# EAGLE library part K155ID1 (library TimeExpander)
Soviet version of SN74141 BCD to Decimal Decoder / Nixie Driver
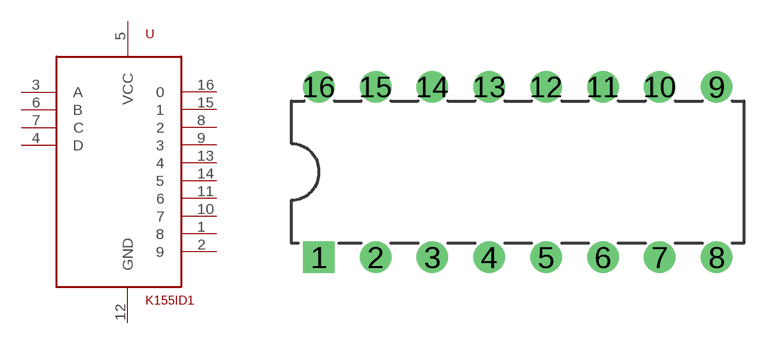
[diagram p4: symbol with the pads of DIP16-2.54-19.2X7.62MM; footprint DIP16-2.54-19.2X7.62MM]

Designator prefix -

## K155ID1 (VALUE: K155ID1)  [DIP16-2.54-19.2X7.62MM]
1  8
2  9
3  A
4  D
5  VCC
6  B
7  C
8  2
9  3
10  7
11  6
12  GND
13  4
14  5
15  1
16  0

## Footprint DIP16-2.54-19.2X7.62MM (pad centres in mm)
DIP-16
drill 0.9 pad 1.4 square: 1 -8.89,-3.81
drill 0.9 pad 1.4: 2 -6.35,-3.81; 3 -3.81,-3.81; 4 -1.27,-3.81; 5 1.27,-3.81; 6 3.81,-3.81; 7 6.35,-3.81; 8 8.89,-3.81; 9 8.89,3.81; 10 6.35,3.81; 11 3.81,3.81; 12 1.27,3.81; 13 -1.27,3.81; 14 -3.81,3.81; 15 -6.35,3.81; 16 -8.89,3.81